# Altium schematic symbol library Schlib1.SchLib: 16 symbols
Pins are listed as number, name and electrical type; pins without a type are passive.

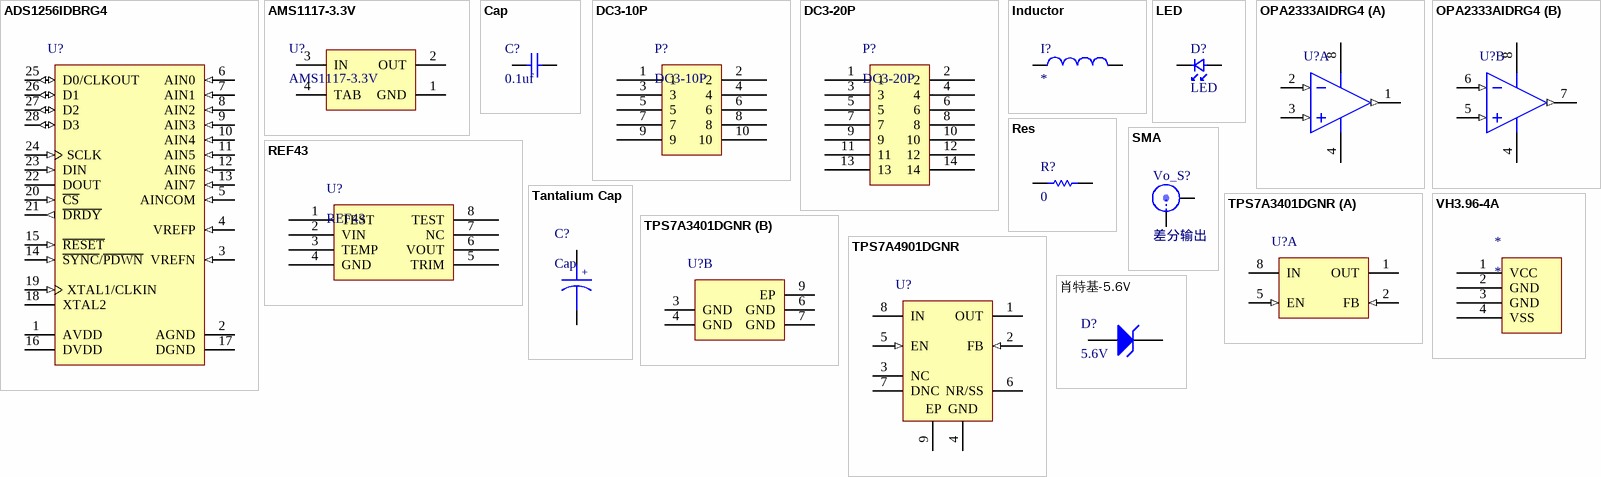
[diagram p0: symbols ADS1256IDBRG4 to 肖特基-5.6V]

## ADS1256IDBRG4
designator U?
24-Bit, 30 kSPS Very Low Noise Delta-Sigma ADC with Multiplexer, -40 to 85 degC, 28-pin SOP (DB28), Green (RoHS & no Sb/Br); Manufacturer: Texas Instruments; PartNumber: ADS1256IDBRG4; # Input Channels: 8; Analog Voltage AV/DD(Max)(V): 5.25; Analog Voltage AV/DD(Min)(V): 4.75; Digital Supply(Max)(V): 3.6; Digital Supply(Min)(V): 1.8; Interface: Serial SPI; Resolution(Bits): 24; Sample Rate (max)(SPS): 30k; SubFamily: Precision ADC (<=10MSPS); DatasheetVersion: SBAS288J; PackageVersion: 4040065/E, 12/2001; PackageReference: DB28; PackageDescription: 28-Pin Plastic Small Outline, Body 10.2 X 5.3 mm, Pitch 0.65 mm; Architecture: Delta-Sigma; Eco-Plan: Green (RoHS & no Sb/Br); Mounting Technology: Surface Mount; Code_JEDEC: MO-150; ComponentLink1Description: Manufacturer URL; ComponentLink1URL: http://www.ti.com/; ComponentLink2Description: Datasheet; ComponentLink2URL: http://www.ti.com/general/docs/lit/getliterature.tsp?genericPartNumber=ADS1256&fileType=pdf; ComponentLink3Description: Package Specification; ComponentLink3URL: http://www.ti.com/lit/ml/msso002e/msso002e.pdf
footprint TI-DB28_N (SOP, 28-Leads, Body 10.2x5.3mm, Pitch 0.65mm, IPC Medium Density)
footprint TI-DB28_L (SOP, 28-Leads, Body 10.2x5.3mm, Pitch 0.65mm, IPC High Density)
footprint TI-DB28_M (SOP, 28-Leads, Body 10.2x5.3mm, Pitch 0.65mm, IPC Low Density)
pins: 1 AVDD (power) "Analog power supply", 2 AGND (power) "Analog ground", 3 VREFN (in) "Negative reference input", 4 VREFP (in) "Positive reference input", 5 AINCOM (in) "Analog input common", 6 AIN0 (in) "Analog input 0", 7 AIN1 (in) "Analog input 1", 8 AIN2 (in) "Analog input 2", 9 AIN3 (in) "Analog input 3", 10 AIN4 (in) "Analog input 4", 11 AIN5 (in) "Analog input 5", 12 AIN6 (in) "Analog input 6", 13 AIN7 (in) "Analog input 7", 14 ~{SYNC}/~{PDWN} (in) "Synchronization / power down input", 15 ~{RESET} (in) "Reset input", 16 DVDD (power) "Digital power supply", 17 DGND (power) "Digital ground", 18 XTAL2 "Crystal oscillator connection", 19 XTAL1/CLKIN (in) "Crystal oscillator connection / external clock input", 20 ~{CS} (in) "Chip select", 21 ~{DRDY} (out) "Data ready output", 22 DOUT (hiz) "Serial data output", 23 DIN (in) "Serial data input", 24 SCLK (in) "Serial clock input", 25 D0/CLKOUT (io) "Digital I/O 0 / clock output", 26 D1 (io) "Digital I/O 1", 27 D2 (io) "Digital I/O 2", 28 D3 (io) "Digital I/O 3"

## AMS1117-3.3V
designator U?
footprint SOT223
pins: 1 GND (power), 2 OUT (power), 3 IN (power), 4 TAB (power)

## Cap
designator C?, comment 0.1uf
footprint 0805
footprint 0603C
pins: 1, 2

## DC3-10P
designator P?
footprint DC3-10P
pins: 1, 2, 3, 4, 5, 6, 7, 8, 9, 10

## DC3-20P
designator P?
footprint DC3-14P
pins: 1, 2, 3, 4, 5, 6, 7, 8, 9, 10, 11, 12, 13, 14

## Inductor
designator I?
footprint 0603C
pins: 1, 2

## LED
designator D?
footprint 0805_s
pins: 1, 2

## OPA2333AIDRG4
designator U?
17 uA, MicroPower, Precision, Zero Drift CMOS Operational Amplifier, 1.8 to 5.5 V, -40 to 125 degC, 8-pin SOIC (D8), Green (RoHS & no Sb/Br); Manufacturer: Texas Instruments; PartNumber: OPA2333AIDRG4; CMRR(Min)(dB): 106; IIB(Max)(pA): 200; Iq per channel(Max)(mA): 0.025; Number of Channels: 2; Offset Drift(Typ)(uV/C): 0.02; Slew Rate(Typ)(V/us): 0.16; Sub Family: Low Offset Voltage Amplifier (<=500uV), Low Power Amp (<=500uA), Low Supply Voltage Amplifier (<=2.7V), Precision Amplifier, Zero Drift Precision Amplifier; Total Supply Voltage(Max)(+5V is 5, +/-5V is 10): 5.5; Total Supply Voltage(Min)(+5V is 5, +/-5V is 10): 1.8; Vio (25C)(Max)(mV): 0.01; DatasheetVersion: SBOS351C; PackageVersion: 4040047-3/M, 06/2011; PackageReference: D8; PackageDescription: 8-Pin Plastic Small Outline, Body 4.9 x 3.9 mm, Pitch 1.27 mm; Eco-Plan: Green (RoHS & no Sb/Br); Mounting Technology: Surface Mount; Code_JEDEC: MS-012; ComponentLink1Description: Manufacturer URL; ComponentLink1URL: http://www.ti.com/; ComponentLink2Description: Datasheet; ComponentLink2URL: http://www.ti.com/general/docs/lit/getliterature.tsp?genericPartNumber=OPA2333&fileType=pdf; ComponentLink3Description: Package Specification; ComponentLink3URL: http://www.ti.com/litv/pdf/msoi002j
footprint TI-D8_N (SOIC, 8-Leads, Body 4.9x3.9mm, Pitch 1.27mm, IPC Medium Density)
footprint TI-D8_L (SOIC, 8-Leads, Body 4.9x3.9mm, Pitch 1.27mm, IPC High Density)
footprint TI-D8_M (SOIC, 8-Leads, Body 4.9x3.9mm, Pitch 1.27mm, IPC Low Density)
pins on every part: 4 V- (power), 8 V+ (power)
part A pins: 1 OUT A (out), 2 IN A- (in), 3 IN A+ (in)
part B pins: 5 IN B+ (in), 6 IN B- (in), 7 OUT B (out)

## REF43
designator U?
footprint TI-D8_L (SOIC, 8-Leads, Body 4.9x3.9mm, Pitch 1.27mm, IPC High Density)
footprint TI-D8_M (SOIC, 8-Leads, Body 4.9x3.9mm, Pitch 1.27mm, IPC Low Density)
footprint TI-D8_N (SOIC, 8-Leads, Body 4.9x3.9mm, Pitch 1.27mm, IPC Medium Density)
pins: 1 TEST, 2 VIN, 3 TEMP, 4 GND, 5 TRIM, 6 VOUT, 7 NC, 8 TEST

## Res
designator R?, comment 0
footprint 0805
footprint 0603R
pins: 1, 2

## SMA
designator Vo_S?, comment 差分输出
footprint SMA-LYING
footprint SMA-STAND
pins: 0, 1

## Tantalium Cap
designator C?, comment Cap
footprint 7343-31 TYPE D
footprint 7343C-TYPE_D
pins: 1, 2
text: +

## TPS7A3401DGNR
designator U?
Single Output Low Noise LDO, 200 mA, Adjustable -1.18 to -18 V Output, -3 to -20 V Input, 8-pin MSOP (DGN), -40 to 125 degC, Green (RoHS & no Sb/Br); Manufacturer: Texas Instruments; PartNumber: TPS7A3401DGNR; Accuracy(%): 1.5; Iout(Max)(A): 0.2; Iq(Typ)(mA): 0.05; SubFamily: Single Channel LDO; Vdo(Typ)(mV): 216; DatasheetVersion: SBVS163; PackageVersion: 4073271/F; PackageReference: DGN8-1760X1425TP; PackageDescription: 8-pin Plastic Small Outline, Body 3 x 3 mm, Pitch 0.65 mm; Eco-Plan: Green (RoHS & no Sb/Br); Vin(Max)(V): -20; Vin(Min)(V): -3; Vout Adj(Max)(V): -18; Vout Adj(Min)(V): -1.18; Mounting Technology: Surface Mount; Code_JEDEC: MO-187; ComponentLink1Description: Manufacturer URL; ComponentLink1URL: http://www.ti.com/; ComponentLink2Description: Datasheet; ComponentLink2URL: http://www.ti.com/general/docs/lit/getliterature.tsp?genericPartNumber=TPS7A3401&fileType=pdf; ComponentLink3Description: Package Specification; ComponentLink3URL: http://www.ti.com/litv/pdf/mpds046e
footprint TI-DGN8-1760X1425TP_N (SOIC, 8-Leads, Body 3x3mm, Pitch 0.65mm, Thermal Pad 1.76x1.425mm, IPC Medium Density)
footprint TI-DGN8-1760X1425TP_L (SOIC, 8-Leads, Body 3x3mm, Pitch 0.65mm, Thermal Pad 1.76x1.425mm, IPC High Density)
footprint TI-DGN8-1760X1425TP_M (SOIC, 8-Leads, Body 3x3mm, Pitch 0.65mm, Thermal Pad 1.76x1.425mm, IPC Low Density)
part A pins: 1 OUT (power) "Regulator output. A capacitor >= 10 uF must be tied from this pin to ground to assure stability.", 2 FB (in) "This pin is the input to the control-loop error amplifier. It is used to set the output voltage of the device.", 5 EN (in) "This pin turns the regulator on or off. If VEN >= V+EN_HI or VEN =< V-EN_HI, the regulator is enabled. If V+EN_LO >= VEN >= V-EN_LO, the regulator is disabled. The EN pin can be connected to IN, if not used. |VEN| =< |VIN|.", 8 IN (power) "Input supply"
part B pins: 3 GND (power) "Ground", 4 GND (power) "Ground", 6 GND (power) "Ground", 7 GND (power) "Ground", 9 EP (power) "Must either be left open or tied to GND. Solder to printed circuit board (PCB) plane to enhance thermal performance."

## TPS7A4901DGNR
designator U?
Single Output High PSRR LDO, 150 mA, Adjustable 1.2 to 33 V Output, 3 to 36 V Input, with Ultra-Low Noise, 8-pin MSOP (DGN), -40 to 125 degC, Green (RoHS & no Sb/Br); Manufacturer: Texas Instruments; PartNumber: TPS7A4901DGNR; Accuracy(%): 1.5; Iout(Max)(A): 0.15; Iq(Typ)(mA): 0.06; Power Good: TRUE; SubFamily: Single Channel LDO; Vdo(Typ)(mV): 260; Vin(Max)(V): 36; Vin(Min)(V): 3; Vout Adj(Max)(V): 33; Vout Adj(Min)(V): 1.2; DatasheetVersion: SBVS121B; PackageVersion: 4073271/F; PackageReference: DGN8-1760X1425TP; PackageDescription: 8-pin Plastic Small Outline, Body 3 x 3 mm, Pitch 0.65 mm; Eco-Plan: Green (RoHS & no Sb/Br); Mounting Technology: Surface Mount; Code_JEDEC: MO-187; ComponentLink1Description: Manufacturer URL; ComponentLink1URL: http://www.ti.com/; ComponentLink2Description: Datasheet; ComponentLink2URL: http://www.ti.com/general/docs/lit/getliterature.tsp?genericPartNumber=TPS7A4901&fileType=pdf; ComponentLink3Description: Package Specification; ComponentLink3URL: http://www.ti.com/litv/pdf/mpds046e
footprint TI-DGN8-1760X1425TP_N (SOIC, 8-Leads, Body 3x3mm, Pitch 0.65mm, Thermal Pad 1.76x1.425mm, IPC Medium Density)
footprint TI-DGN8-1760X1425TP_L (SOIC, 8-Leads, Body 3x3mm, Pitch 0.65mm, Thermal Pad 1.76x1.425mm, IPC High Density)
footprint TI-DGN8-1760X1425TP_M (SOIC, 8-Leads, Body 3x3mm, Pitch 0.65mm, Thermal Pad 1.76x1.425mm, IPC Low Density)
pins: 1 OUT (power) "Regulator output. A capacitor >= 2.2uF must be tied from this pin to ground to assure stability.", 2 FB (in) "This pin is the input to the control-loop error amplifier. It is used to set the output voltage of the device", 3 NC "Not internally connected. This pin must either be left open or tied to GND.", 4 GND (power) "Ground", 5 EN (in), 6 NR/SS "Noise reduction pin. Connecting an external capacitor to this pin bypasses noise generated by the internal bandgap. This capacitor allows RMS noise to be reduced to very low levels and also controls the soft-start function.", 7 DNC "DO NOT CONNECT. Do not route this pin to any electrical net, not even GND or IN.", 8 IN (power) "Input supply", 9 EP (power) "Must either be left open or tied to GND. Solder to printed circuit board (PCB) plane to enhance thermal performance."

## VH3.96-4A
designator *
footprint VH3.96-4P
footprint VH3.96-4P
pins: 1 VCC, 2 GND, 3 GND, 4 VSS

## 肖特基-5.6V
designator D?, comment 5.6V
footprint SMA/DO-214AC
pins: 1 A, 2 K